# Altium schematic symbol library 1st_design_lib.SchLib: 1 symbol
Pins are listed as number, name and electrical type; pins without a type are passive.

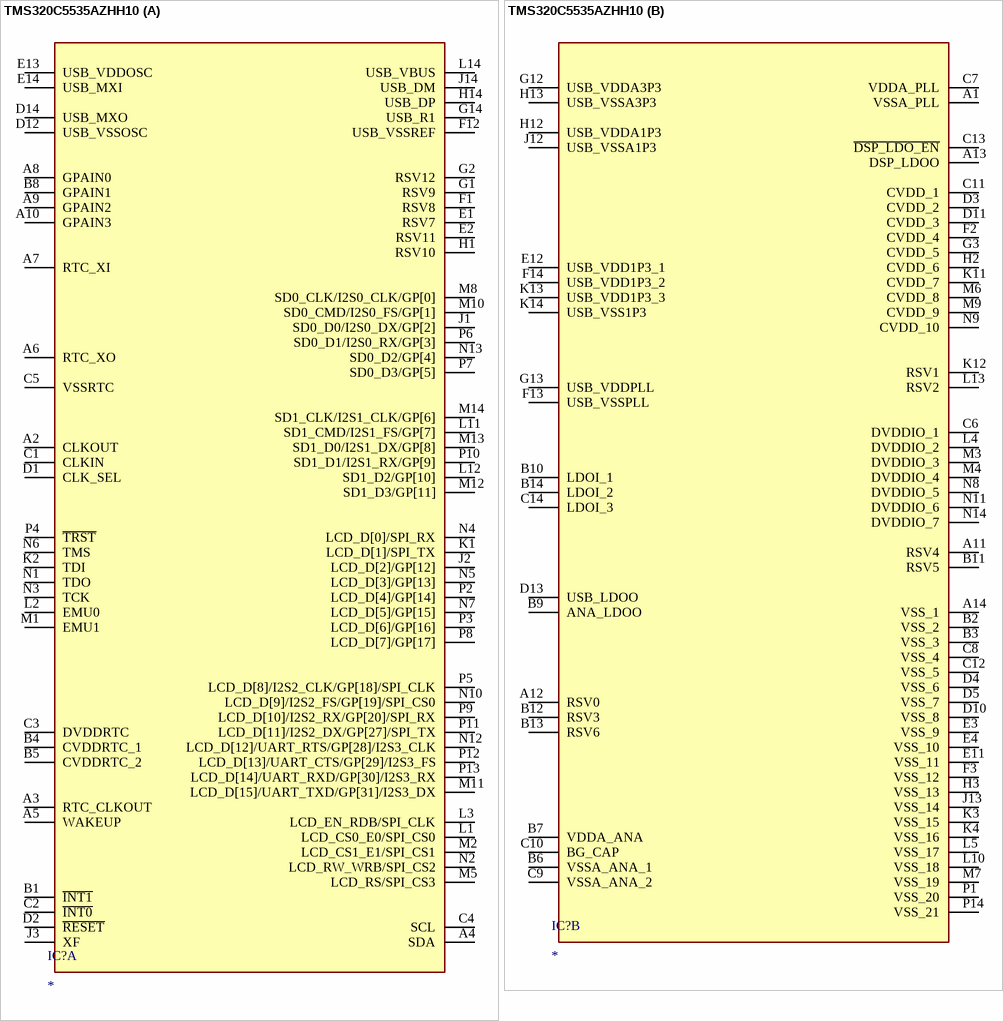
[diagram p0: symbol TMS320C5535AZHH10]

## TMS320C5535AZHH10
designator IC?
Integrated Circuit; Manufacturer_Name: Texas Instruments; Manufacturer_Part_Number: TMS320C5535AZHH10; Description: Fixed-Point Digital Signal Processor; Datasheet Link: https://www.ti.com/lit/ds/symlink/tms320c5535.pdf?ts=1611725836718&ref_url=https%253A%252F%252Fwww.ti.com%252Fstore%252Fti%252Fen%252Fp%252Fproduct%252F%253Fp%253DTMS320C5535AZAY10; Height: 1.4mm; Mouser Part Number: 595-MS320C5535AZHH10; Mouser Price/Stock: https://www.mouser.co.uk/ProductDetail/Texas-Instruments/TMS320C5535AZHH10/?qs=bdKHSS5iKg4ejDTN3zE2OA%3D%3D; Arrow Part Number: TMS320C5535AZHH10; Arrow Price/Stock: https://www.arrow.com/en/products/tms320c5535azhh10/texas-instruments
footprint BGA144C80P14X14_1200X1200X140
part A pins: A2 CLKOUT, A3 RTC_CLKOUT, A4 SDA, A5 WAKEUP, A6 RTC_XO, A7 RTC_XI, A8 GPAIN0, A9 GPAIN2, A10 GPAIN3, B1 ~{INT1}, B4 CVDDRTC_1, B5 CVDDRTC_2, B8 GPAIN1, C1 CLKIN, C2 ~{INT0}, C3 DVDDRTC, C4 SCL, C5 VSSRTC, D1 CLK_SEL, D2 ~{RESET}, D12 USB_VSSOSC, D14 USB_MXO, E1 RSV7, E2 RSV11, E13 USB_VDDOSC, E14 USB_MXI, F1 RSV8, F12 USB_VSSREF, G1 RSV9, G2 RSV12, G14 USB_R1, H1 RSV10, H14 USB_DP, J1 SD0_D0/I2S0_DX/GP[2], J2 LCD_D[2]/GP[12], J3 XF, J14 USB_DM, K1 LCD_D[1]/SPI_TX, K2 TDI, L1 LCD_CS0_E0/SPI_CS0, L2 EMU0, L3 LCD_EN_RDB/SPI_CLK, L11 SD1_CMD/I2S1_FS/GP[7], L12 SD1_D2/GP[10], L14 USB_VBUS, M1 EMU1, M2 LCD_CS1_E1/SPI_CS1, M5 LCD_RS/SPI_CS3, M8 SD0_CLK/I2S0_CLK/GP[0], M10 SD0_CMD/I2S0_FS/GP[1], M11 LCD_D[15]/UART_TXD/GP[31]/I2S3_DX, M12 SD1_D3/GP[11], M13 SD1_D0/I2S1_DX/GP[8], M14 SD1_CLK/I2S1_CLK/GP[6], N1 TDO, N2 LCD_RW_WRB/SPI_CS2, N3 TCK, N4 LCD_D[0]/SPI_RX, N5 LCD_D[3]/GP[13], N6 TMS, N7 LCD_D[5]/GP[15], N10 LCD_D[9]/I2S2_FS/GP[19]/SPI_CS0, N12 LCD_D[12]/UART_RTS/GP[28]/I2S3_CLK, N13 SD0_D2/GP[4], P2 LCD_D[4]/GP[14], P3 LCD_D[6]/GP[16], P4 ~{TRST}, P5 LCD_D[8]/I2S2_CLK/GP[18]/SPI_CLK, P6 SD0_D1/I2S0_RX/GP[3], P7 SD0_D3/GP[5], P8 LCD_D[7]/GP[17], P9 LCD_D[10]/I2S2_RX/GP[20]/SPI_RX, P10 SD1_D1/I2S1_RX/GP[9], P11 LCD_D[11]/I2S2_DX/GP[27]/SPI_TX, P12 LCD_D[13]/UART_CTS/GP[29]/I2S3_FS, P13 LCD_D[14]/UART_RXD/GP[30]/I2S3_RX
part B pins: A1 VSSA_PLL, A11 RSV4, A12 RSV0, A13 DSP_LDOO, A14 VSS_1, B2 VSS_2, B3 VSS_3, B6 VSSA_ANA_1, B7 VDDA_ANA, B9 ANA_LDOO, B10 LDOI_1, B11 RSV5, B12 RSV3, B13 RSV6, B14 LDOI_2, C6 DVDDIO_1, C7 VDDA_PLL, C8 VSS_4, C9 VSSA_ANA_2, C10 BG_CAP, C11 CVDD_1, C12 VSS_5, C13 ~{DSP_LDO_EN}, C14 LDOI_3, D3 CVDD_2, D4 VSS_6, D5 VSS_7, D10 VSS_8, D11 CVDD_3, D13 USB_LDOO, E3 VSS_9, E4 VSS_10, E11 VSS_11, E12 USB_VDD1P3_1, F2 CVDD_4, F3 VSS_12, F13 USB_VSSPLL, F14 USB_VDD1P3_2, G3 CVDD_5, G12 USB_VDDA3P3, G13 USB_VDDPLL, H2 CVDD_6, H3 VSS_13, H12 USB_VDDA1P3, H13 USB_VSSA3P3, J12 USB_VSSA1P3, J13 VSS_14, K3 VSS_15, K4 VSS_16, K11 CVDD_7, K12 RSV1, K13 USB_VDD1P3_3, K14 USB_VSS1P3, L4 DVDDIO_2, L5 VSS_17, L10 VSS_18, L13 RSV2, M3 DVDDIO_3, M4 DVDDIO_4, M6 CVDD_8, M7 VSS_19, M9 CVDD_9, N8 DVDDIO_5, N9 CVDD_10, N11 DVDDIO_6, N14 DVDDIO_7, P1 VSS_20, P14 VSS_21